# Altium footprint library 拨码开关.PcbLib: 31 footprints (part 1 of 2)
Each footprint in its own frame and in the unit in brackets; x right, y up, seen from the top. Pads: shape width x height; smd on the part's side, far side on the other; paste and mask are expansions set on the pad; w line width, h text height; cw(c..) or ccw(c..) is an arc to the next point about the centre after c.
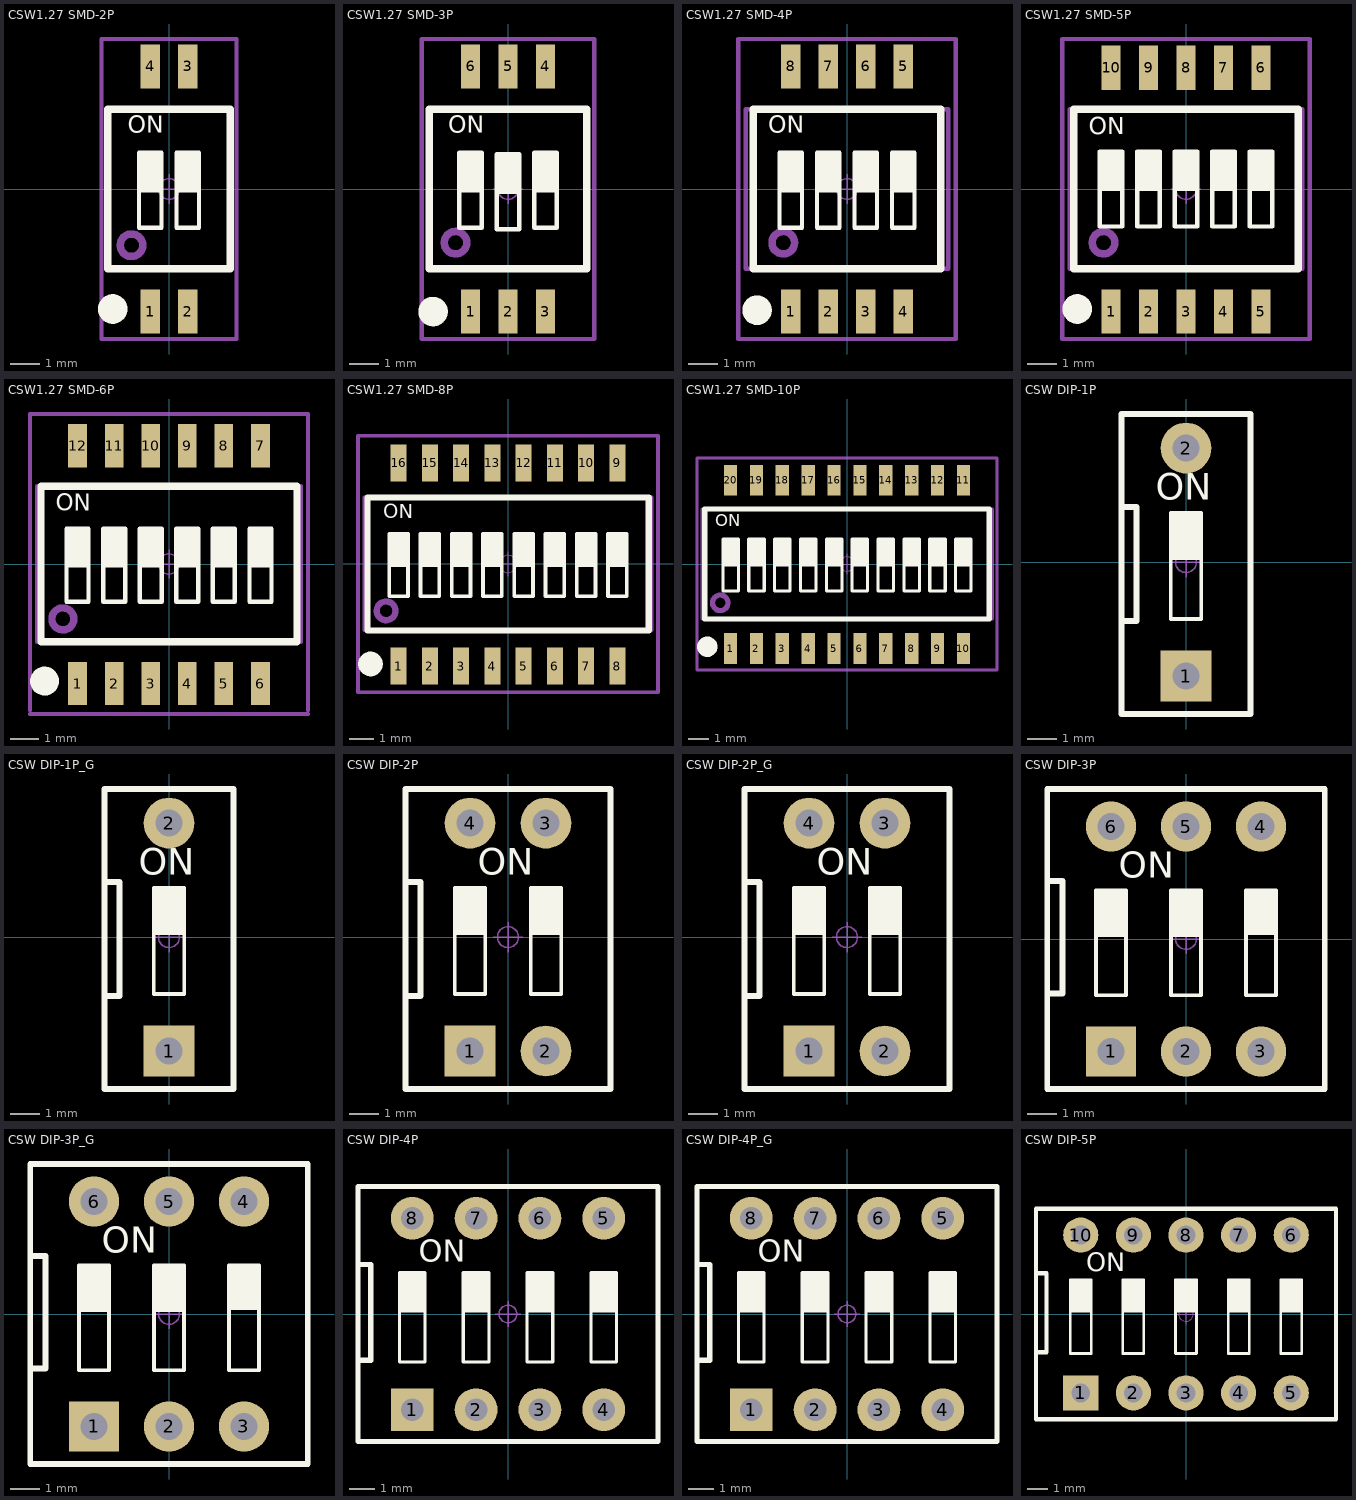
[diagram p0: the footprints below, top view; thin cyan lines are the x and y axes]

## CSW1.27 SMD-2P [mm] "长：4.14mm，宽：5.4mm，高：2.3mm"
pads (4):
  rect 0.65x1.5 smd: 1(-0.635,-4.15) 2(0.635,-4.15) 3(0.635,4.15) 4(-0.635,4.15)
Top Overlay:
  circle w0.5: c-1.905,-4.064 r0.25
  region: -0.254,1.225 -1.016,1.225 -1.016,-0.045 -0.254,-0.045
  region: 1.016,1.225 0.254,1.225 0.254,-0.045 1.016,-0.045
  lines w0.15: -1.016,-0.045 -0.254,-0.045 ; 0.254,-0.045 1.016,-0.045 ; -1.016,-1.315 -0.254,-1.315 -0.254,1.225 -1.016,1.225 -1.016,-1.315 ; 0.254,-1.315 1.016,-1.315 1.016,1.225 0.254,1.225 0.254,-1.315
  lines w0.254: -2.07,-2.7 -2.07,2.7 2.07,2.7 2.07,-2.7 -2.07,-2.7
  text "ON" at -1.397,1.696 h1
Mechanical 13:
  circle w0.254: c-1.27,-1.905 r0.381
  lines w0.15: -2.032,-2.7 2.032,-2.7 2.032,2.7 -2.032,2.7 -2.032,-2.7
Mechanical 15:
  circle w0.05: c0,0 r0.35
  lines w0.05: -0.5,0 0.5,0 ; 0,-0.5 0,0.5
  lines w0.15: -2.286,-5.08 2.159,-5.08 2.286,-5.08 2.286,5.08 -2.286,5.08 -2.286,-5.08
3D body "CSW1.27-SMD-2P.STEP": height 2.35, standoff 0, extent -2.07,-4.35 2.07,4.35

## CSW1.27 SMD-3P [mm] "长：5.41mm，宽：5.4mm，高：2.3mm"
pads (6):
  rect 0.65x1.5 smd: 1(-1.27,-4.15) 2(0,-4.15) 3(1.27,-4.15) 4(1.27,4.15) 5(0,4.15) 6(-1.27,4.15)
Top Overlay:
  circle w0.5: c-2.54,-4.15 r0.25
  region: -0.889,1.225 -1.651,1.225 -1.651,-0.045 -0.889,-0.045
  region: 0.381,1.184 -0.381,1.184 -0.381,-0.086 0.381,-0.086
  region: 1.651,1.225 0.889,1.225 0.889,-0.045 1.651,-0.045
  lines w0.15: -1.651,-0.045 -0.889,-0.045 ; -0.381,-0.086 0.381,-0.086 ; 0.889,-0.045 1.651,-0.045 ; -1.651,-1.315 -0.889,-1.315 -0.889,1.225 -1.651,1.225 -1.651,-1.315 ; -0.381,-1.356 0.381,-1.356 0.381,1.184 -0.381,1.184 -0.381,-1.356 ; 0.889,-1.315 1.651,-1.315 1.651,1.225 0.889,1.225 0.889,-1.315
  lines w0.254: -2.667,-2.7 -2.667,2.7 2.667,2.7 2.667,-2.7 -2.667,-2.7
  text "ON" at -2.032,1.696 h1
Mechanical 13:
  circle w0.254: c-1.778,-1.819 r0.381
  lines w0.15: -2.667,-2.7 2.705,-2.7 2.705,2.7 -2.667,2.7 -2.667,-2.7
Mechanical 15:
  circle w0.05: c0,0 r0.35
  lines w0.05: -0.5,0 0.5,0 ; 0,-0.5 0,0.5
  lines w0.15: -2.921,-5.08 2.159,-5.08 2.921,-5.08 2.921,5.08 -2.921,5.08 -2.921,-5.08
3D body "CSW1.27-SMD-3P.STEP": height 2.35, standoff 0, extent -2.705,-4.35 2.705,4.35

## CSW1.27 SMD-4P [mm] "长：6.68mm，宽：5.4mm，高：2.3mm"
pads (8):
  rect 0.65x1.5 smd: 1(-1.905,-4.15) 2(-0.635,-4.15) 3(0.635,-4.15) 4(1.905,-4.15) 5(1.905,4.15) 6(0.635,4.15) 7(-0.635,4.15) 8(-1.905,4.15)
Top Overlay:
  circle w0.5: c-3.048,-4.105 r0.25
  region: -1.524,1.225 -2.286,1.225 -2.286,-0.045 -1.524,-0.045
  region: -0.254,1.225 -1.016,1.225 -1.016,-0.045 -0.254,-0.045
  region: 1.016,1.225 0.254,1.225 0.254,-0.045 1.016,-0.045
  region: 2.286,1.225 1.524,1.225 1.524,-0.045 2.286,-0.045
  lines w0.15: -2.286,-0.045 -1.524,-0.045 ; -1.016,-0.045 -0.254,-0.045 ; 0.254,-0.045 1.016,-0.045 ; 1.524,-0.045 2.286,-0.045 ; -2.286,-1.315 -1.524,-1.315 -1.524,1.225 -2.286,1.225 -2.286,-1.315 ; -1.016,-1.315 -0.254,-1.315 -0.254,1.225 -1.016,1.225 -1.016,-1.315 ; 0.254,-1.315 1.016,-1.315 1.016,1.225 0.254,1.225 0.254,-1.315 ; 1.524,-1.315 2.286,-1.315 2.286,1.225 1.524,1.225 1.524,-1.315
  lines w0.254: -3.175,-2.7 -3.175,2.7 3.175,2.7 3.175,-2.7 -3.175,-2.7
  text "ON" at -2.667,1.696 h1
Mechanical 13:
  circle w0.254: c-2.159,-1.819 r0.381
  lines w0.15: -3.429,-2.7 3.429,-2.7 3.429,2.7 -3.429,2.7 -3.429,-2.7
Mechanical 15:
  circle w0.05: c0,0 r0.35
  lines w0.05: -0.5,0 0.5,0 ; 0,-0.5 0,0.5
  lines w0.15: -3.683,-5.08 2.159,-5.08 3.683,-5.08 3.683,5.08 -3.683,5.08 -3.683,-5.08
3D body "CSW1.27-SMD-4P.STEP": height 2.35, standoff 0, extent -3.34,-4.35 3.34,4.35

## CSW1.27 SMD-5P [mm] "长：7.95mm，宽：5.4mm，高：2.3mm"
pads (10):
  rect 0.65x1.5 smd: 1(-2.54,-4.15) 2(-1.27,-4.15) 3(0,-4.15) 4(1.27,-4.15) 5(2.54,-4.15) 6(2.54,4.105) 7(1.27,4.105) 8(0,4.105) 9(-1.27,4.105) 10(-2.54,4.105)
Top Overlay:
  circle w0.5: c-3.683,-4.064 r0.25
  region: -2.159,1.27 -2.921,1.27 -2.921,0 -2.159,0
  region: -0.889,1.27 -1.651,1.27 -1.651,0 -0.889,0
  region: 1.651,1.27 0.889,1.27 0.889,0 1.651,0
  region: 2.921,1.27 2.159,1.27 2.159,0 2.921,0
  region: 0.381,1.27 -0.381,1.27 -0.381,0 0.381,0
  lines w0.15: -2.921,0 -2.159,0 ; -1.651,0 -0.889,0 ; -0.381,0 0.381,0 ; 0.889,0 1.651,0 ; 2.159,0 2.921,0 ; -2.921,-1.27 -2.159,-1.27 -2.159,1.27 -2.921,1.27 -2.921,-1.27 ; -1.651,-1.27 -0.889,-1.27 -0.889,1.27 -1.651,1.27 -1.651,-1.27 ; -0.381,-1.27 -0.381,1.27 0.381,1.27 0.381,-1.27 -0.381,-1.27 ; 0.889,-1.27 1.651,-1.27 1.651,1.27 0.889,1.27 0.889,-1.27 ; 2.159,-1.27 2.921,-1.27 2.921,1.27 2.159,1.27 2.159,-1.27
  lines w0.254: -3.81,-2.7 -3.81,2.7 3.81,2.7 3.81,-2.7 -3.81,-2.7
  text "ON" at -3.302,1.651 h1
Mechanical 13:
  circle w0.254: c-2.794,-1.819 r0.381
  lines w0.15: -3.937,-2.7 3.937,-2.7 3.937,2.7 -3.937,2.7 -3.937,-2.7
Mechanical 15:
  circle w0.05: c0,0 r0.35
  lines w0.05: -0.5,0 0.5,0 ; 0,-0.5 0,0.5
  lines w0.15: -4.191,-5.08 2.159,-5.08 4.191,-5.08 4.191,5.08 -4.191,5.08 -4.191,-5.08
3D body "CSW1.27-SMD-5P.STEP": height 2.35, standoff 0, extent -3.975,-4.35 3.975,4.35

## CSW1.27 SMD-6P [mm] "长：9.22mm，宽：5.4mm，高：2.3mm"
pads (12):
  rect 0.65x1.5 smd: 1(-3.175,-4.15) 2(-1.905,-4.15) 3(-0.635,-4.15) 4(0.635,-4.15) 5(1.905,-4.15) 6(3.175,-4.15) 7(3.175,4.105) 8(1.905,4.105) 9(0.635,4.105) 10(-0.635,4.105) 11(-1.905,4.105) 12(-3.175,4.105)
Top Overlay:
  circle w0.5: c-4.318,-4.064 r0.25
  region: 3.556,1.225 2.794,1.225 2.794,-0.045 3.556,-0.045
  region: 2.286,1.225 1.524,1.225 1.524,-0.045 2.286,-0.045
  region: 1.016,1.225 0.254,1.225 0.254,-0.045 1.016,-0.045
  region: -0.254,1.225 -1.016,1.225 -1.016,-0.045 -0.254,-0.045
  region: -1.524,1.225 -2.286,1.225 -2.286,-0.045 -1.524,-0.045
  region: -2.794,1.225 -3.556,1.225 -3.556,-0.045 -2.794,-0.045
  lines w0.15: -3.556,-0.045 -2.794,-0.045 ; -2.286,-0.045 -1.524,-0.045 ; -1.016,-0.045 -0.254,-0.045 ; 0.254,-0.045 1.016,-0.045 ; 1.524,-0.045 2.286,-0.045 ; 2.794,-0.045 3.556,-0.045 ; -3.556,-1.315 -3.556,1.225 -2.794,1.225 -2.794,-1.315 -3.556,-1.315 ; -2.286,-1.315 -2.286,1.225 -1.524,1.225 -1.524,-1.315 -2.286,-1.315 ; -1.016,-1.315 -1.016,1.225 -0.254,1.225 -0.254,-1.315 -1.016,-1.315 ; 0.254,-1.315 0.254,1.225 1.016,1.225 1.016,-1.315 0.254,-1.315 ; 1.524,-1.315 1.524,1.225 2.286,1.225 2.286,-1.315 1.524,-1.315 ; 2.794,-1.315 2.794,1.225 3.556,1.225 3.556,-1.315 2.794,-1.315
  lines w0.254: -4.445,-2.7 4.445,-2.7 4.445,2.7 -4.445,2.7 -4.445,-2.7
  text "ON" at -3.937,1.651 h1
Mechanical 13:
  circle w0.254: c-3.683,-1.905 r0.381
  lines w0.15: -4.572,-2.7 -4.572,2.7 4.572,2.7 4.572,-2.7 -4.572,-2.7
Mechanical 15:
  circle w0.05: c0,0 r0.35
  lines w0.05: -0.5,0 0.5,0 ; 0,-0.5 0,0.5
  lines w0.15: -4.826,-5.207 2.159,-5.207 4.826,-5.207 ; -4.826,-5.08 -4.826,5.207 4.826,5.207 4.826,-5.08
3D body "CSW1.27-SMD-6P.STEP": height 2.35, standoff 0, extent -4.61,-4.35 4.61,4.35

## CSW1.27 SMD-8P [mm] "长：11.76mm，宽：5.4mm，高：2.3mm"
pads (16):
  rect 0.65x1.5 smd: 1(-4.445,-4.15) 2(-3.175,-4.15) 3(-1.905,-4.15) 4(-0.635,-4.15) 5(0.635,-4.15) 6(1.905,-4.15) 7(3.175,-4.15) 8(4.445,-4.15) 9(4.445,4.105) 10(3.175,4.105) 11(1.905,4.105) 12(0.635,4.105) 13(-0.635,4.105) 14(-1.905,4.105) 15(-3.175,4.105) 16(-4.445,4.105)
Top Overlay:
  circle w0.5: c-5.588,-4.064 r0.25
  region: 4.826,1.225 4.064,1.225 4.064,-0.045 4.826,-0.045
  region: 3.556,1.225 2.794,1.225 2.794,-0.045 3.556,-0.045
  region: 2.286,1.225 1.524,1.225 1.524,-0.045 2.286,-0.045
  region: 1.016,1.225 0.254,1.225 0.254,-0.045 1.016,-0.045
  region: -0.254,1.225 -1.016,1.225 -1.016,-0.045 -0.254,-0.045
  region: -1.524,1.225 -2.286,1.225 -2.286,-0.045 -1.524,-0.045
  region: -2.794,1.225 -3.556,1.225 -3.556,-0.045 -2.794,-0.045
  region: -4.064,1.225 -4.826,1.225 -4.826,-0.045 -4.064,-0.045
  lines w0.15: -4.826,-0.045 -4.064,-0.045 ; -3.556,-0.045 -2.794,-0.045 ; -2.286,-0.045 -1.524,-0.045 ; -1.016,-0.045 -0.254,-0.045 ; 0.254,-0.045 1.016,-0.045 ; 1.524,-0.045 2.286,-0.045 ; 2.794,-0.045 3.556,-0.045 ; 4.064,-0.045 4.826,-0.045 ; -4.826,-1.315 -4.826,1.225 -4.064,1.225 -4.064,-1.315 -4.826,-1.315 ; -3.556,-1.315 -3.556,1.225 -2.794,1.225 -2.794,-1.315 -3.556,-1.315 ; -2.286,-1.315 -2.286,1.225 -1.524,1.225 -1.524,-1.315 -2.286,-1.315 ; -1.016,-1.315 -1.016,1.225 -0.254,1.225 -0.254,-1.315 -1.016,-1.315 ; 0.254,-1.315 0.254,1.225 1.016,1.225 1.016,-1.315 0.254,-1.315 ; 1.524,-1.315 1.524,1.225 2.286,1.225 2.286,-1.315 1.524,-1.315 ; 2.794,-1.315 2.794,1.225 3.556,1.225 3.556,-1.315 2.794,-1.315 ; 4.064,-1.315 4.064,1.225 4.826,1.225 4.826,-1.315 4.064,-1.315
  lines w0.254: -5.715,-2.7 5.715,-2.7 5.715,2.7 -5.715,2.7 -5.715,-2.7
  text "ON" at -5.08,1.651 h1
Mechanical 13:
  circle w0.254: c-4.953,-1.905 r0.381
  lines w0.15: -5.842,-2.7 -5.842,2.7 5.842,2.7 5.842,-2.7 -5.842,-2.7
Mechanical 15:
  circle w0.05: c0,0 r0.35
  lines w0.05: -0.5,0 0.5,0 ; 0,-0.5 0,0.5
  lines w0.15: 6.095,-5.21 -6.096,-5.21 -6.096,-5.207 -6.096,5.207 6.096,5.207 6.096,-5.21
3D body "CSW1.27-SMD-8P.STEP": height 2.35, standoff 0, extent -5.88,-4.35 5.88,4.35

## CSW1.27 SMD-10P [mm] "长：14.3mm，宽：5.4mm，高：2.3mm"
pads (20):
  rect 0.65x1.5 smd: 1(-5.715,-4.15) 2(-4.445,-4.15) 3(-3.175,-4.15) 4(-1.905,-4.15) 5(-0.635,-4.15) 6(0.635,-4.15) 7(1.905,-4.15) 8(3.175,-4.15) 9(4.445,-4.15) 10(5.715,-4.15) 11(5.715,4.105) 12(4.445,4.105) 13(3.175,4.105) 14(1.905,4.105) 15(0.635,4.105) 16(-0.635,4.105) 17(-1.905,4.105) 18(-3.175,4.105) 19(-4.445,4.105) 20(-5.715,4.105)
Top Overlay:
  circle w0.5: c-6.858,-4.064 r0.25
  region: 6.096,1.225 5.334,1.225 5.334,-0.045 6.096,-0.045
  region: 4.826,1.225 4.064,1.225 4.064,-0.045 4.826,-0.045
  region: 3.556,1.225 2.794,1.225 2.794,-0.045 3.556,-0.045
  region: 2.286,1.225 1.524,1.225 1.524,-0.045 2.286,-0.045
  region: 1.016,1.225 0.254,1.225 0.254,-0.045 1.016,-0.045
  region: -0.254,1.225 -1.016,1.225 -1.016,-0.045 -0.254,-0.045
  region: -1.524,1.225 -2.286,1.225 -2.286,-0.045 -1.524,-0.045
  region: -2.794,1.225 -3.556,1.225 -3.556,-0.045 -2.794,-0.045
  region: -4.064,1.225 -4.826,1.225 -4.826,-0.045 -4.064,-0.045
  region: -5.334,1.225 -6.096,1.225 -6.096,-0.045 -5.334,-0.045
  lines w0.15: -6.096,-0.045 -5.334,-0.045 ; -4.826,-0.045 -4.064,-0.045 ; -3.556,-0.045 -2.794,-0.045 ; -2.286,-0.045 -1.524,-0.045 ; -1.016,-0.045 -0.254,-0.045 ; 0.254,-0.045 1.016,-0.045 ; 1.524,-0.045 2.286,-0.045 ; 2.794,-0.045 3.556,-0.045 ; 4.064,-0.045 4.826,-0.045 ; 5.334,-0.045 6.096,-0.045 ; -6.096,-1.315 -6.096,1.225 -5.334,1.225 -5.334,-1.315 -6.096,-1.315 ; -4.826,-1.315 -4.826,1.225 -4.064,1.225 -4.064,-1.315 -4.826,-1.315 ; -3.556,-1.315 -3.556,1.225 -2.794,1.225 -2.794,-1.315 -3.556,-1.315 ; -2.286,-1.315 -2.286,1.225 -1.524,1.225 -1.524,-1.315 -2.286,-1.315 ; -1.016,-1.315 -1.016,1.225 -0.254,1.225 -0.254,-1.315 -1.016,-1.315 ; 0.254,-1.315 0.254,1.225 1.016,1.225 1.016,-1.315 0.254,-1.315 ; 1.524,-1.315 1.524,1.225 2.286,1.225 2.286,-1.315 1.524,-1.315 ; 2.794,-1.315 2.794,1.225 3.556,1.225 3.556,-1.315 2.794,-1.315 ; 4.064,-1.315 4.064,1.225 4.826,1.225 4.826,-1.315 4.064,-1.315 ; 5.334,-1.315 5.334,1.225 6.096,1.225 6.096,-1.315 5.334,-1.315
  lines w0.254: -6.985,-2.7 -6.985,2.7 6.985,2.7 6.985,-2.7 -6.985,-2.7
  text "ON" at -6.477,1.651 h1
Mechanical 13:
  circle w0.254: c-6.223,-1.905 r0.381
  lines w0.15: -7.112,-2.7 7.15,-2.7 7.15,2.7 -7.112,2.7 -7.112,-2.7
Mechanical 15:
  circle w0.05: c0,0 r0.35
  lines w0.05: -0.5,0 0.5,0 ; 0,-0.5 0,0.5
  lines w0.15: -7.366,-5.207 7.366,-5.207 7.366,5.207 -7.366,5.207 -7.366,-5.207
3D body "CSW1.27-SMD-10P.STEP": height 2.35, standoff 0, extent -7.15,-4.35 7.15,4.35

## CSW DIP-1P [mm] "4.1*9.9*7mm"
pads (2):
  rect 1.7x1.7 hole 0.9: 1(0,-3.81)
  round 1.7 hole 0.9: 2(0,3.81)
Top Overlay:
  rectangle: -0.508,0.127 0.508,1.651
  lines w0.127: -0.508,0.127 0.508,0.127 ; -0.508,-1.905 -0.508,1.651 0.508,1.651 0.508,-1.905 -0.508,-1.905
  lines w0.2: -2.159,-5.08 -2.159,4.953 2.159,4.953 2.159,-5.08 -2.159,-5.08
  lines w0.203: -2.159,-1.968 -1.651,-1.968 -1.651,1.841 -2.159,1.841
  text "ON" at -1.016,1.778 h1.52
Mechanical 15:
  circle w0.05: c0,0 r0.35
  lines w0.05: -0.5,0 0.5,0 ; 0,-0.5 0,0.5
3D body "CSW DIP-1P.STEP": height 6.65, standoff -3.15, extent -2.05,-4.95 2.05,4.95

## CSW DIP-1P_G [mm] "4.1*9.9*7mm"
pads (2):
  rect 1.7x1.7 hole 0.9: 1(0,-3.81)
  round 1.7 hole 0.9: 2(0,3.81)
Top Overlay:
  rectangle: -0.508,0.127 0.508,1.651
  lines w0.127: -0.508,0.127 0.508,0.127 ; -0.508,-1.905 0.508,-1.905 0.508,1.651 -0.508,1.651 -0.508,-1.905
  lines w0.2: -2.159,-5.08 2.159,-5.08 2.159,4.953 -2.159,4.953 -2.159,-5.08
  lines w0.203: -2.159,-1.968 -1.651,-1.968 -1.651,1.841 -2.159,1.841
  text "ON" at -1.016,1.778 h1.52
Mechanical 15:
  circle w0.05: c0,0 r0.35
  lines w0.05: -0.5,0 0.5,0 ; 0,-0.5 0,0.5
3D body "CSW DIP-1P_G.STEP": height 6.65, standoff -3.15, extent -2.05,-4.95 2.05,4.95

## CSW DIP-2P [mm] "6.6*9.9*7mm"
pads (4):
  rect 1.7x1.7 hole 0.9: 1(-1.27,-3.81)
  round 1.7 hole 0.9: 2(1.27,-3.81) 3(1.27,3.81) 4(-1.27,3.81)
Top Overlay:
  rectangle: -1.778,0.127 -0.762,1.651
  rectangle: 0.762,0.127 1.778,1.651
  lines w0.127: -1.778,0.127 -0.762,0.127 ; 0.762,0.127 1.778,0.127 ; -1.778,-1.905 -1.778,1.651 -0.762,1.651 -0.762,-1.905 -1.778,-1.905 ; 0.762,-1.905 0.762,1.651 1.778,1.651 1.778,-1.905 0.762,-1.905
  lines w0.2: -3.429,-5.08 -3.429,4.953 3.429,4.953 3.429,-5.08 -3.429,-5.08
  lines w0.203: -3.429,-1.968 -2.921,-1.968 -2.921,1.841 -3.429,1.841
  text "ON" at -1.016,1.778 h1.52
Mechanical 15:
  circle w0.05: c0,0 r0.35
  lines w0.05: -0.5,0 0.5,0 ; 0,-0.5 0,0.5
3D body "CSW DIP-2P.STEP": height 6.65, standoff -3.15, extent -3.32,-4.95 3.32,4.95

## CSW DIP-2P_G [mm] "6.6*9.9*7mm"
pads (4):
  rect 1.7x1.7 hole 0.9: 1(-1.27,-3.81)
  round 1.7 hole 0.9: 2(1.27,-3.81) 3(1.27,3.81) 4(-1.27,3.81)
Top Overlay:
  rectangle: -1.778,0.127 -0.762,1.651
  rectangle: 0.762,0.127 1.778,1.651
  lines w0.127: -1.778,0.127 -0.762,0.127 ; 0.762,0.127 1.778,0.127 ; -1.778,-1.905 -1.778,1.651 -0.762,1.651 -0.762,-1.905 -1.778,-1.905 ; 0.762,-1.905 0.762,1.651 1.778,1.651 1.778,-1.905 0.762,-1.905
  lines w0.2: -3.429,-5.08 -3.429,4.953 3.429,4.953 3.429,-5.08 -3.429,-5.08
  lines w0.203: -3.429,-1.968 -2.921,-1.968 -2.921,1.841 -3.429,1.841
  text "ON" at -1.016,1.778 h1.52
Mechanical 15:
  circle w0.05: c0,0 r0.35
  lines w0.05: -0.5,0 0.5,0 ; 0,-0.5 0,0.5
3D body "CSW DIP-2P_G.STEP": height 6.65, standoff -3.15, extent -3.32,-4.95 3.32,4.95

## CSW DIP-3P [mm] "9.2*9.9*7mm"
pads (6):
  rect 1.7x1.7 hole 0.9: 1(-2.54,-3.81)
  round 1.7 hole 0.9: 2(0,-3.81) 3(2.54,-3.81) 4(2.54,3.81) 5(0,3.81) 6(-2.54,3.81)
Top Overlay:
  rectangle: 2.032,0.127 3.048,1.651
  rectangle: -3.048,0.127 -2.032,1.651
  rectangle: -0.508,0.127 0.508,1.651
  lines w0.127: -3.048,0.127 -2.032,0.127 ; -0.508,0.127 0.508,0.127 ; -3.048,-1.905 -3.048,1.651 -2.032,1.651 -2.032,-1.905 -3.048,-1.905 ; -0.508,-1.905 -0.508,1.651 0.508,1.651 0.508,-1.905 -0.508,-1.905 ; 2.032,-1.905 3.048,-1.905 3.048,1.651 2.032,1.651 2.032,-1.905
  lines w0.2: -4.699,-5.08 -4.699,5.08 4.699,5.08 4.699,-5.08 -4.699,-5.08
  lines w0.203: -4.699,-1.841 -4.191,-1.841 -4.191,1.968 -4.699,1.968
  text "ON" at -2.286,1.778 h1.52
Mechanical 15:
  circle w0.05: c0,0 r0.35
  lines w0.05: -0.5,0 0.5,0 ; 0,-0.5 0,0.5
3D body "CSW DIP-3P.STEP": height 6.65, standoff -3.15, extent -4.59,-4.95 4.59,4.95

## CSW DIP-3P_G [mm] "9.2*9.9*7mm"
pads (6):
  rect 1.7x1.7 hole 0.9: 1(-2.54,-3.81)
  round 1.7 hole 0.9: 2(0,-3.81) 3(2.54,-3.81) 4(2.54,3.81) 5(0,3.81) 6(-2.54,3.81)
Top Overlay:
  rectangle: -0.508,0.127 0.508,1.651
  rectangle: -3.048,0.127 -2.032,1.651
  rectangle: 2.032,0.127 3.048,1.651
  lines w0.127: -3.048,0.127 -2.032,0.127 ; -0.508,0.127 0.508,0.127 ; -3.048,-1.905 -2.032,-1.905 -2.032,1.651 -3.048,1.651 -3.048,-1.905 ; -0.508,-1.905 0.508,-1.905 0.508,1.651 -0.508,1.651 -0.508,-1.905 ; 2.032,-1.905 2.032,1.651 3.048,1.651 3.048,-1.905 2.032,-1.905
  lines w0.2: -4.699,-5.08 4.699,-5.08 4.699,5.08 -4.699,5.08 -4.699,-5.08
  lines w0.203: -4.699,-1.841 -4.191,-1.841 -4.191,1.968 -4.699,1.968
  text "ON" at -2.286,1.778 h1.52
Mechanical 15:
  circle w0.05: c0,0 r0.35
  lines w0.05: -0.5,0 0.5,0 ; 0,-0.5 0,0.5
3D body "CSW DIP-3P_G.STEP": height 6.65, standoff -3.15, extent -4.59,-4.95 4.59,4.95

## CSW DIP-4P [mm] "11.7*9.9*7mm"
pads (8):
  rect 1.7x1.7 hole 0.9: 1(-3.81,-3.81)
  round 1.7 hole 0.9: 2(-1.27,-3.81) 3(1.27,-3.81) 4(3.81,-3.81) 5(3.81,3.81) 6(1.27,3.81) 7(-1.27,3.81) 8(-3.81,3.81)
Top Overlay:
  rectangle: 3.302,0.127 4.318,1.651
  rectangle: 0.762,0.127 1.778,1.651
  rectangle: -1.778,0.127 -0.762,1.651
  rectangle: -4.318,0.127 -3.302,1.651
  lines w0.127: -4.318,0.127 -3.302,0.127 ; -1.778,0.127 -0.762,0.127 ; 0.762,0.127 1.778,0.127 ; 3.302,0.127 4.318,0.127 ; -4.318,-1.905 -3.302,-1.905 -3.302,1.651 -4.318,1.651 -4.318,-1.905 ; -1.778,-1.905 -0.762,-1.905 -0.762,1.651 -1.778,1.651 -1.778,-1.905 ; 0.762,-1.905 1.778,-1.905 1.778,1.651 0.762,1.651 0.762,-1.905 ; 3.302,-1.905 4.318,-1.905 4.318,1.651 3.302,1.651 3.302,-1.905
  lines w0.2: -5.969,-5.08 5.969,-5.08 5.969,5.08 -5.969,5.08 -5.969,-5.08
  lines w0.203: -5.969,-1.841 -5.461,-1.841 -5.461,1.968 -5.969,1.968
  text "ON" at -3.556,1.778 h1.52
Mechanical 15:
  circle w0.05: c0,0 r0.35
  lines w0.05: -0.5,0 0.5,0 ; 0,-0.5 0,0.5
3D body "CSW DIP-4P.STEP": height 6.65, standoff -3.15, extent -5.86,-4.95 5.86,4.95

## CSW DIP-4P_G [mm] "11.7*9.9*7mm"
pads (8):
  rect 1.7x1.7 hole 0.9: 1(-3.81,-3.81)
  round 1.7 hole 0.9: 2(-1.27,-3.81) 3(1.27,-3.81) 4(3.81,-3.81) 5(3.81,3.81) 6(1.27,3.81) 7(-1.27,3.81) 8(-3.81,3.81)
Top Overlay:
  rectangle: -4.318,0.127 -3.302,1.651
  rectangle: -1.778,0.127 -0.762,1.651
  rectangle: 0.762,0.127 1.778,1.651
  rectangle: 3.302,0.127 4.318,1.651
  lines w0.127: -4.318,0.127 -3.302,0.127 ; -1.778,0.127 -0.762,0.127 ; 0.762,0.127 1.778,0.127 ; 3.302,0.127 4.318,0.127 ; -4.318,-1.905 -4.318,1.651 -3.302,1.651 -3.302,-1.905 -4.318,-1.905 ; -1.778,-1.905 -1.778,1.651 -0.762,1.651 -0.762,-1.905 -1.778,-1.905 ; 0.762,-1.905 0.762,1.651 1.778,1.651 1.778,-1.905 0.762,-1.905 ; 3.302,-1.905 3.302,1.651 4.318,1.651 4.318,-1.905 3.302,-1.905
  lines w0.2: -5.969,-5.08 -5.969,5.08 5.969,5.08 5.969,-5.08 -5.969,-5.08
  lines w0.203: -5.969,-1.841 -5.461,-1.841 -5.461,1.968 -5.969,1.968
  text "ON" at -3.556,1.778 h1.52
Mechanical 15:
  circle w0.05: c0,0 r0.35
  lines w0.05: -0.5,0 0.5,0 ; 0,-0.5 0,0.5
3D body "CSW DIP-4P_G.STEP": height 6.65, standoff -3.15, extent -5.86,-4.95 5.86,4.95

## CSW DIP-5P [mm] "14.2*9.9*7mm"
pads (10):
  rect 1.7x1.7 hole 0.9: 1(-5.08,-3.81)
  round 1.7 hole 0.9: 2(-2.54,-3.81) 3(0,-3.81) 4(2.54,-3.81) 5(5.08,-3.81) 6(5.08,3.81) 7(2.54,3.81) 8(0,3.81) 9(-2.54,3.81) 10(-5.08,3.81)
Top Overlay:
  rectangle: 4.572,0.127 5.588,1.651
  rectangle: 2.032,0.127 3.048,1.651
  rectangle: -0.508,0.127 0.508,1.651
  rectangle: -3.048,0.127 -2.032,1.651
  rectangle: -5.588,0.127 -4.572,1.651
  lines w0.127: -5.588,0.127 -4.572,0.127 ; -3.048,0.127 -2.032,0.127 ; -0.508,0.127 0.508,0.127 ; 2.032,0.127 3.048,0.127 ; 4.572,0.127 5.588,0.127 ; -5.588,-1.905 -4.572,-1.905 -4.572,1.651 -5.588,1.651 -5.588,-1.905 ; -3.048,-1.905 -2.032,-1.905 -2.032,1.651 -3.048,1.651 -3.048,-1.905 ; -0.508,-1.905 0.508,-1.905 0.508,1.651 -0.508,1.651 -0.508,-1.905 ; 2.032,-1.905 3.048,-1.905 3.048,1.651 2.032,1.651 2.032,-1.905 ; 4.572,-1.905 5.588,-1.905 5.588,1.651 4.572,1.651 4.572,-1.905
  lines w0.2: -7.239,-5.08 7.239,-5.08 7.239,5.08 -7.239,5.08 -7.239,-5.08
  lines w0.203: -7.239,-1.841 -6.731,-1.841 -6.731,1.968 -7.239,1.968
  text "ON" at -4.826,1.778 h1.52
Mechanical 15:
  circle w0.05: c0,0 r0.35
  lines w0.05: -0.5,0 0.5,0 ; 0,-0.5 0,0.5
3D body "CSW DIP-5P.STEP": height 6.65, standoff -3.15, extent -7.13,-4.95 7.13,4.95